# EAGLE library part MIC24052 (library Power > Switching Controllers)
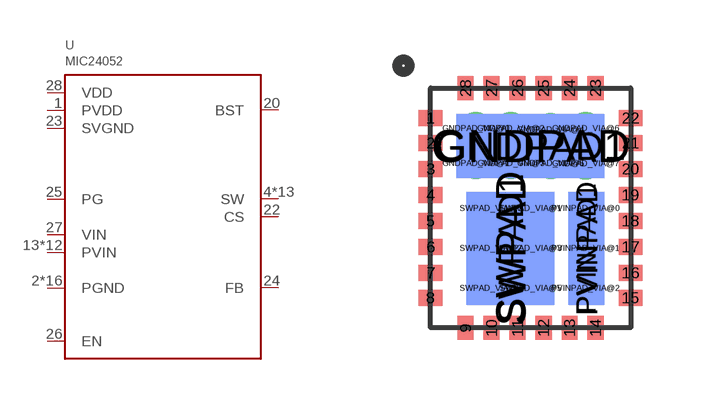
[diagram p13: symbol with the pads of VQFN28; footprint VQFN28]

Designator prefix U

## MIC24052  [VQFN28]
1  PVDD
2  PGND
4  SW
5  PGND
6  PGND
7  PGND
8  PGND
9  SW
10  SW
11  SW
12  SW
13  PVIN
14  PVIN
15  PVIN
16  PVIN
17  PVIN
18  PVIN
19  PVIN
20  BST
21  PGND
22  CS
23  SVGND
24  FB
25  PG
26  EN
27  VIN
28  VDD
GNDPAD  PGND
GNDPAD1  PGND
GNDPAD_VIA@0  PGND
GNDPAD_VIA@1  PGND
GNDPAD_VIA@2  PGND
GNDPAD_VIA@3  PGND
GNDPAD_VIA@4  PGND
GNDPAD_VIA@5  PGND
GNDPAD_VIA@6  PGND
GNDPAD_VIA@7  PGND
PVINPAD  PVIN
PVINPAD1  PVIN
PVINPAD_VIA@0  PVIN
PVINPAD_VIA@1  PVIN
PVINPAD_VIA@2  PVIN
SWPAD  SW
SWPAD1  SW
SWPAD_VIA@0  SW
SWPAD_VIA@1  SW
SWPAD_VIA@2  SW
SWPAD_VIA@3  SW
SWPAD_VIA@4  SW
SWPAD_VIA@5  SW

## Footprint VQFN28 (pad centres in mm)
smd 0.6 x 0.4: 1 -2.5,2.25; 2 -2.5,1.625; 3 -2.5,0.975; 4 -2.5,0.325; 5 -2.5,-0.325; 6 -2.5,-0.975; 7 -2.5,-1.625; 8 -2.5,-2.25; 15 2.5,-2.25; 16 2.5,-1.625; 17 2.5,-0.975; 18 2.5,-0.325; 19 2.5,0.325; 20 2.5,0.975; 21 2.5,1.625; 22 2.5,2.25
smd 0.4 x 0.6: 9 -1.625,-3; 10 -0.975,-3; 11 -0.325,-3; 12 0.325,-3; 13 0.975,-3; 14 1.625,-3; 23 1.625,3; 24 0.975,3; 25 0.325,3; 26 -0.325,3; 27 -0.975,3; 28 -1.625,3
smd 3.7 x 1.6: GNDPAD 0,1.55
smd 3.7 x 1.6 bottom: GNDPAD1 0,1.55
drill 0.3 pad 0.61: GNDPAD_VIA@0 -1.373,2; GNDPAD_VIA@1 -1.373,1.127; GNDPAD_VIA@2 -0.5,2; GNDPAD_VIA@3 -0.492,1.127; GNDPAD_VIA@4 0.492,1.968; GNDPAD_VIA@5 0.5,1.127; GNDPAD_VIA@6 1.373,2; GNDPAD_VIA@7 1.373,1.119; PVINPAD_VIA@0 1.373,0; PVINPAD_VIA@1 1.373,-1; PVINPAD_VIA@2 1.373,-2; SWPAD_VIA@0 -1,0; SWPAD_VIA@1 0,0; SWPAD_VIA@2 -1,-1; SWPAD_VIA@3 0,-1; SWPAD_VIA@4 -1,-2; SWPAD_VIA@5 0,-2
smd 0.9 x 2.83: PVINPAD 1.4,-1.015
smd 0.9 x 2.83 bottom: PVINPAD1 1.4,-1.015
smd 2.2 x 2.83: SWPAD -0.5,-1.015
smd 2.2 x 2.83 bottom: SWPAD1 -0.5,-1.015